# EAGLE library part MICROCHIP-TC427-MOSFET-DRIVER (library GROUND-STATION-POWER-BOARD)
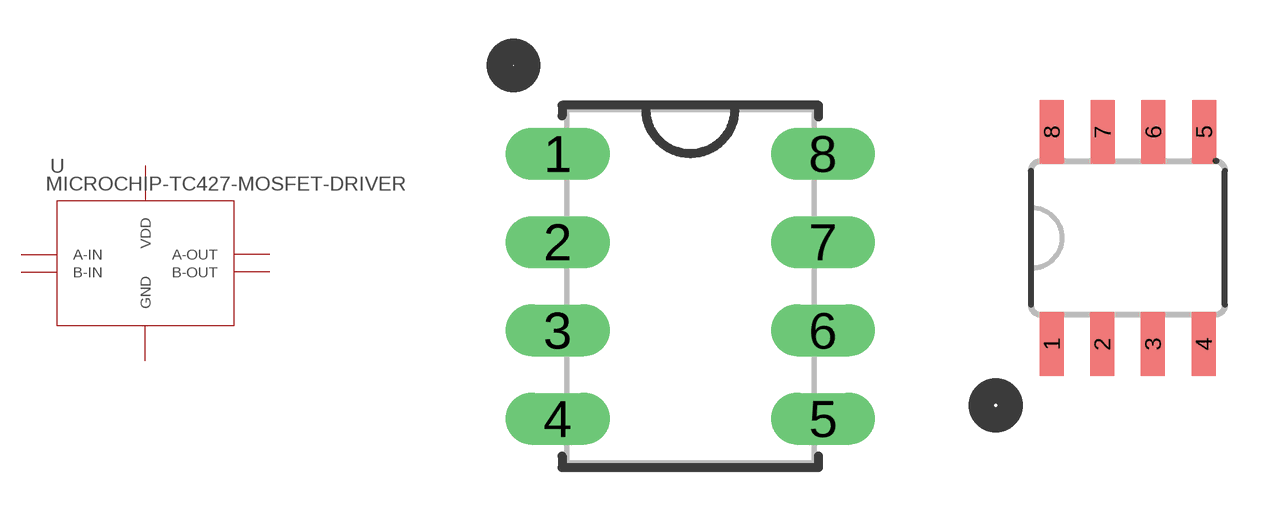
[diagram p4: symbol with the pads of PDIP8; footprints PDIP8, SOIC8]

Designator prefix U

## MICROCHIP-TC427-MOSFET-DRIVER (MANUFACTURER_PART_NUMBER: TC426CPA; VENDOR: Microchip)  [PDIP8]

## MICROCHIP-TC427-MOSFET-DRIVERSOIC8  [SOIC8]
2  A-IN  pas
3  GND  pas
4  B-IN  pas
5  B-OUT  pas
6  VDD  pas
7  A-OUT  pas

## Footprint PDIP8 (pad centres in mm)
drill 0.991 pad 1.499 long: 1 -7.62,7.62; 2 -7.62,5.08; 3 -7.62,2.54; 4 -7.62,0; 5 0,0; 6 0,2.54; 7 0,5.08; 8 0,7.62

## Footprint SOIC8 (pad centres in mm)
8S1 8-lead (0.150" Wide Body) Plastic Gull Wing Small Outline (JEDEC SOIC) Source: http://www.atmel.com/dyn/resources/prod_documents/2535S.pdf
smd 0.6 x 1.6: 1 -1.905,-2.654; 2 -0.645,-2.654; 3 0.625,-2.654; 4 1.895,-2.654; 5 1.905,2.654; 6 0.635,2.654; 7 -0.635,2.654; 8 -1.905,2.654